# Altium footprint library D_SUB_15x2_0.PcbLib: 1 footprints
Each footprint in its own frame and in the unit in brackets; x right, y up, seen from the top. Pads: shape width x height; smd on the part's side, far side on the other; paste and mask are expansions set on the pad; w line width, h text height; cw(c..) or ccw(c..) is an arc to the next point about the centre after c.
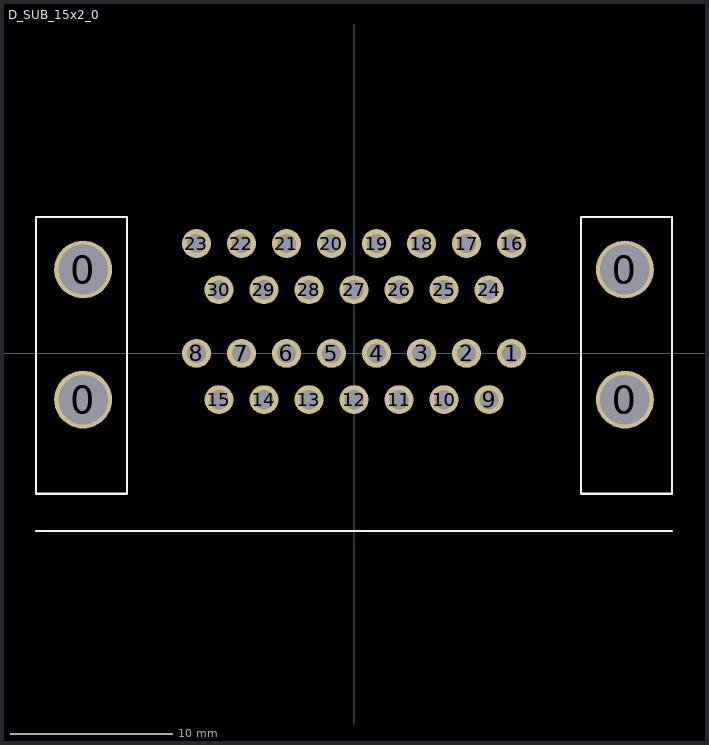
[diagram p0: the footprint, top view; thin cyan lines are the x and y axes]

## D_SUB_15x2_0 [mil] "NorComp Dual 15-pin D-Sub"
pads (34):
  round 140 hole 120: 0(-656,-112) 0(-656,203) 0(656,-112) 0(656,203)
  round 70 hole 47: 1(381.5,0) 2(272.5,0) 3(163.5,0) 4(54.5,0) 5(-54.5,0) 6(-163.5,0) 7(-272.5,0) 8(-381.5,0) 9(327,-112) 10(218,-112) 11(109,-112) 12(0,-112) 13(-109,-112) 14(-218,-112) 15(-327,-112) 16(381.5,266) 17(272.5,266) 18(163.5,266) 19(54.5,266) 20(-54.5,266) 21(-163.5,266) 22(-272.5,266) 23(-381.5,266) 24(327,154) 25(218,154) 26(109,154) 27(0,154) 28(-109,154) 29(-218,154) 30(-327,154)
Top Overlay:
  lines w5: -770.5,-430 770.5,-430 ; -770.5,-340 -550,-340 -550,330 -770.5,330 -770.5,-340 ; 550,-340 550,330 770.5,330 770.5,-340 550,-340
3D body "178-015-513.STEP": height 1252, standoff -124, extent -774,-671 774,330